# EAGLE library part MICRO_USB (library SmartPrj)
Micro_USB ADAM-TECH MCR-AB1-S-RA-SMT
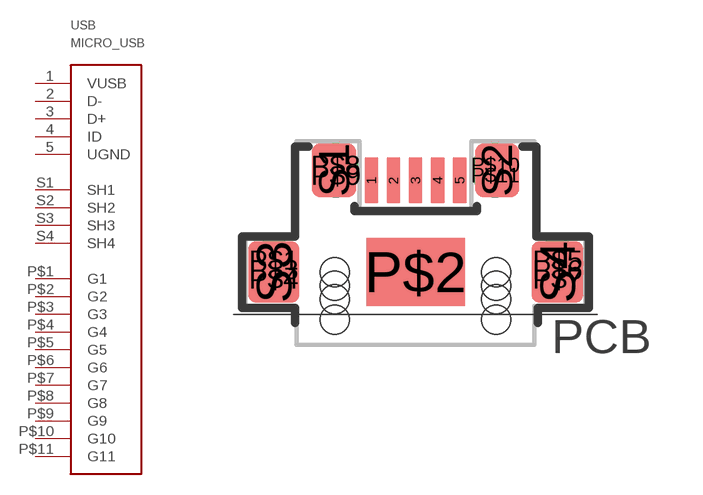
[diagram p3: symbol with the pads of MCR-AB1-S-RA-SMT; footprint MCR-AB1-S-RA-SMT]

Designator prefix USB

## MICRO_USB  [MCR-AB1-S-RA-SMT]
1  VUSB  pwr
2  D-
3  D+
4  ID  nc
5  UGND  pwr
P$1  G1  pas
P$2  G2  pas
P$3  G3  pas
P$4  G4  pas
P$5  G5  pas
P$6  G6  pas
P$7  G7  pas
P$8  G8  pas
P$9  G9  pas
P$10  G10  pas
P$11  G11  pas
S1  SH1  pas
S2  SH2  pas
S3  SH3  pas
S4  SH4  pas

## Footprint MCR-AB1-S-RA-SMT (pad centres in mm)
smd 0.4 x 1.35: 1 -1.3,2.7; 2 -0.65,2.7; 3 0,2.7; 4 0.65,2.7; 5 1.3,2.7
drill 0.8: P$1 -4.175,0.356; P$3 -4.175,0.076; P$4 -4.175,-0.203; P$5 4.175,0.356; P$6 4.175,0.076; P$7 4.175,-0.203
smd 2.9 x 2: P$2 0,0
drill 0.8 pad 1.27: P$8 -2.35,3.15; P$9 -2.35,2.85; P$10 2.35,3.15; P$11 2.35,2.85
smd 1.3 x 1.6: S1 -2.4,3; S2 2.4,3
smd 1.5 x 1.8: S3 -4.175,0; S4 4.175,0
hole 0.85 at -2.375,0
hole 0.85 at 2.375,0
hole 0.85 at -2.375,-1.4
hole 0.85 at 2.375,-1.4
hole 0.85 at -2.375,-0.4
hole 0.85 at 2.375,-0.4
hole 0.85 at 2.375,-0.8
hole 0.85 at -2.375,-0.8